# Altium schematic symbol library LCD7.0_SCH.SchLib: 27 symbols
Pins are listed as number, name and electrical type; pins without a type are passive.

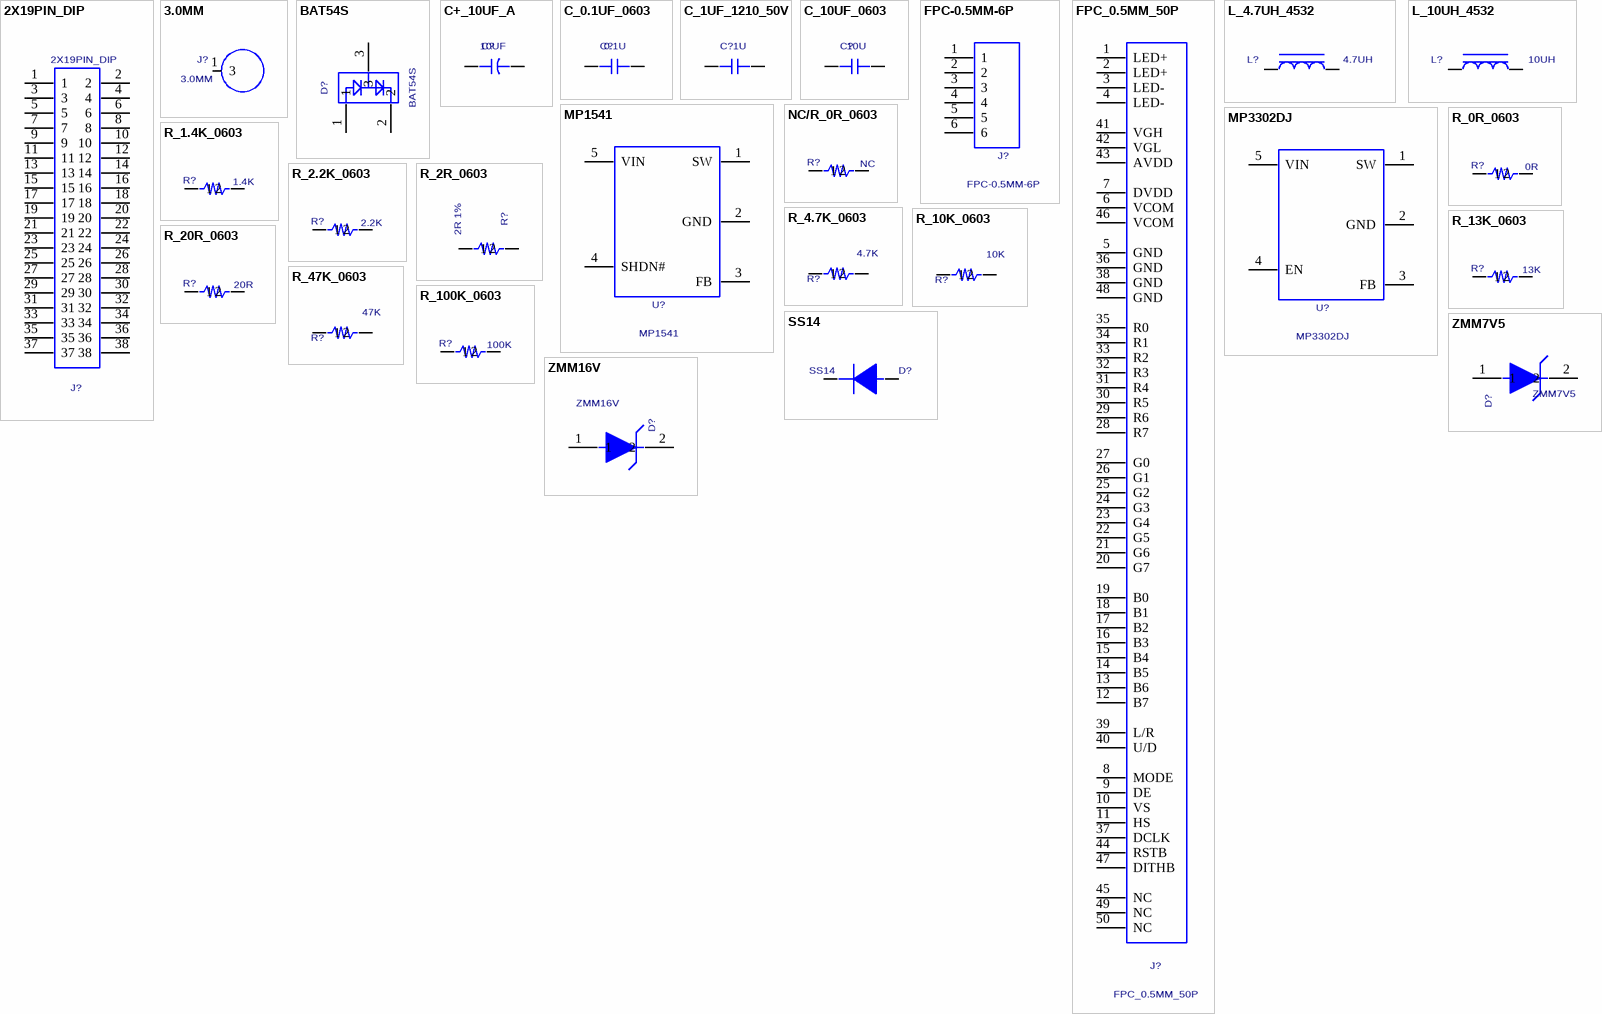
[diagram p0: symbols 2X19PIN_DIP to ZMM16V]

## 2X19PIN_DIP
designator J?
PCB DECAL: 2X19X2.54MM
footprint 2X19X2.54MM
pins: 1, 2, 3, 4, 5, 6, 7, 8, 9, 10, 11, 12, 13, 14, 15, 16, 17, 18, 19, 20, 21, 22, 23, 24, 25, 26, 27, 28, 29, 30, 31, 32, 33, 34, 35, 36, 37, 38

## 3.0MM
designator J?
PCB DECAL: 3.0MM
footprint 3.0MM
pins: 1 3

## BAT54S
designator D?
PCB DECAL: SOT-23; Value: BAT54S
footprint SOT-23
pins: 1, 2, 3

## C+_10UF_A
designator C?  value 10UF  (hidden comment: C+_10UF_A)
PCB DECAL: AVX_A_3216-18
footprint AVX_A_3216-18
pins: 1 +, 2 -

## C_0.1UF_0603
designator C?  value 0.1U  (hidden comment: C_0.1UF_0603)
PCB DECAL: C_0603
footprint C_0603
pins: 1, 2

## C_1UF_1210_50V
designator C?  value 1U  (hidden comment: C_1UF_1210_50V)
PCB DECAL: 1210
footprint 1210
pins: 1, 2

## C_10UF_0603
designator C?  value 10U  (hidden comment: C_10UF_0603)
PCB DECAL: C_0603
footprint C_0603
pins: 1, 2

## FPC-0.5MM-6P
designator J?
PCB DECAL: 6P-FPC-0.5; Value: FPC-0.5MM-6P
footprint 6P-FPC-0.5
pins: 1, 2, 3, 4, 5, 6

## FPC_0.5MM_50P
designator J?
Value: FPC_0.5MM_50P; PCB DECAL: FPC_0.5MM_50P
footprint FPC_0.5MM_50P
pins: 1 LED+, 2 LED+, 3 LED-, 4 LED-, 5 GND, 6 VCOM, 7 DVDD, 8 MODE, 9 DE, 10 VS, 11 HS, 12 B7, 13 B6, 14 B5, 15 B4, 16 B3, 17 B2, 18 B1, 19 B0, 20 G7, 21 G6, 22 G5, 23 G4, 24 G3, 25 G2, 26 G1, 27 G0, 28 R7, 29 R6, 30 R5, 31 R4, 32 R3, 33 R2, 34 R1, 35 R0, 36 GND, 37 DCLK, 38 GND, 39 L/R, 40 U/D, 41 VGH, 42 VGL, 43 AVDD, 44 RSTB, 45 NC, 46 VCOM, 47 DITHB, 48 GND, 49 NC, 50 NC

## L_4.7UH_4532
designator L?  value 4.7UH  (hidden comment: L_4.7UH_4532)
PCB DECAL: GDCD4532
footprint GDCD4532
pins: 1, 2

## L_10UH_4532
designator L?  value 10UH  (hidden comment: L_10UH_4532)
PCB DECAL: GDCD4532
footprint GDCD4532
pins: 1, 2

## MP1541
designator U?
PCB DECAL: SOT-23-5; Value: MP1541
footprint SOT-23-5
pins: 1 SW, 2 GND, 3 FB, 4 SHDN#, 5 VIN

## MP3302DJ
designator U?
PCB DECAL: SOT-23-5; Value: MP3302DJ
footprint SOT-23-5
pins: 1 SW, 2 GND, 3 FB, 4 EN, 5 VIN

## NC/R_0R_0603
designator R?  value NC  (hidden comment: NC/R_0R_0603)
PCB DECAL: R_0603
footprint R_0603
pins: 1, 2

## R_0R_0603
designator R?  value 0R  (hidden comment: R_0R_0603)
PCB DECAL: R_0603
footprint R_0603
pins: 1, 2

## R_1.4K_0603
designator R?  value 1.4K  (hidden comment: R_1.4K_0603)
PCB DECAL: R_0603
footprint R_0603
pins: 1, 2

## R_2.2K_0603
designator R?  value 2.2K  (hidden comment: R_2.2K_0603)
PCB DECAL: R_0603
footprint R_0603
pins: 1, 2

## R_2R_0603
designator R?  value 2R 1%  (hidden comment: R_2R_0603)
PCB DECAL: R_0603
footprint R_0603
pins: 1, 2

## R_4.7K_0603
designator R?  value 4.7K  (hidden comment: R_4.7K_0603)
PCB DECAL: R_0603
footprint R_0603
pins: 1, 2

## R_10K_0603
designator R?  value 10K  (hidden comment: R_10K_0603)
PCB DECAL: R_0603
footprint R_0603
pins: 1, 2

## R_13K_0603
designator R?  value 13K  (hidden comment: R_13K_0603)
PCB DECAL: R_0603
footprint R_0603
pins: 1, 2

## R_20R_0603
designator R?  value 20R  (hidden comment: R_20R_0603)
PCB DECAL: R_0603
footprint R_0603
pins: 1, 2

## R_47K_0603
designator R?  value 47K  (hidden comment: R_47K_0603)
PCB DECAL: R_0603
footprint R_0603
pins: 1, 2

## R_100K_0603
designator R?  value 100K  (hidden comment: R_100K_0603)
PCB DECAL: R_0603
footprint R_0603
pins: 1, 2

## SS14
designator D?
PCB DECAL: SS24_1206; Value: SS14
footprint SS24_1206
pins: 1 +, 2 -

## ZMM7V5
designator D?
PCB DECAL: ZMM4V3; Value: ZMM7V5
footprint ZMM4V3
pins: 1, 2

## ZMM16V
designator D?
PCB DECAL: ZMM4V3; Value: ZMM16V
footprint ZMM4V3
pins: 1, 2